# Altium footprint library BNO055.PcbLib: 1 footprints
Each footprint in its own frame and in the unit in brackets; x right, y up, seen from the top. Pads: shape width x height; smd on the part's side, far side on the other; paste and mask are expansions set on the pad; w line width, h text height; cw(c..) or ccw(c..) is an arc to the next point about the centre after c.
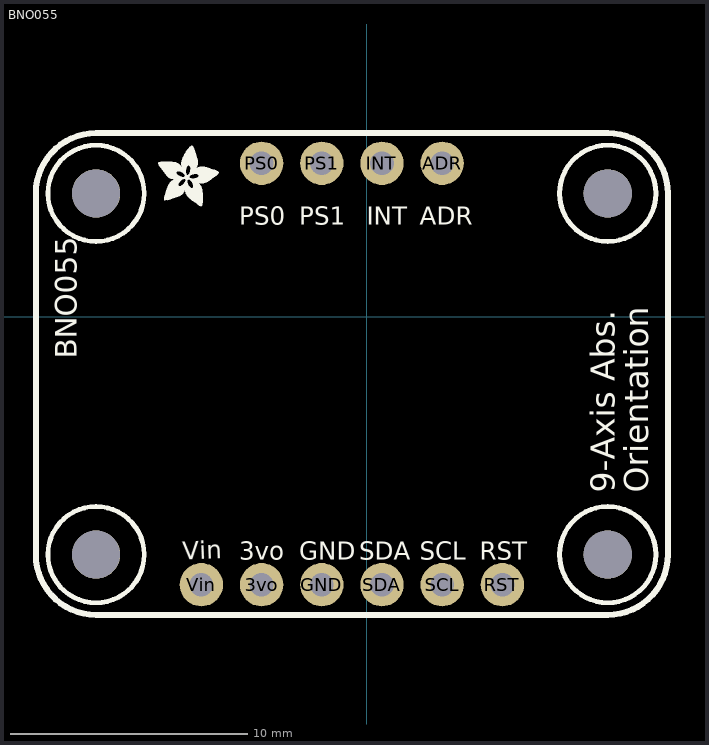
[diagram p0: the footprint, top view; thin cyan lines are the x and y axes]

## BNO055 [mil]
pads (14):
  round 72 hole 39.36 paste-99999 mask+4: 3vo(-175,-445) ADR(125,255) GND(-75,-445) INT(25,255) PS0(-175,255) PS1(-75,255) RST(225,-445) SCL(125,-445) SDA(25,-445) Vin(-275,-445)
  round 80 hole 80 unplated paste-99999: ""(-450,-395) ""(-450,205) ""(400,-395) ""(400,205)
Top Overlay:
  drawing of 13 lines, arcs and shapes, not listed
  text "RST" at 187.5,-403.75 h30
  text "SCL" at 87.5,-403.75 h30
  text "SDA" at -12.5,-403.75 h30
  text "GND" at -112.5,-403.75 h30
  text "3vo" at -212.5,-403.75 h30
  text "Vin" at -305.73,-403.74 h30
  text "PS0" at -212.5,152.5 h30
  text "PS1" at -112.5,152.5 h30
  text "INT" at 0,152.5 h30
  text "ADR" at 87.5,152.5 h30
  text "BNO055" at -482,-70 h36
  text "9-Axis Abs." at 412,-292 h40
  text "Orientation" at 467,-292 h40